# EAGLE library part MAX3395E? (library _hhn_max3395)
MAXIM MAX3395E Quad Level Translators Author: Dipl.-Ing. FH Rainer Bayer (rainer.bayer@hs-heilbronn.de) Package Variants ETC+ TQFN 12 with Exposed Pad Notes Connect Exposed Pad (PAD) with GND
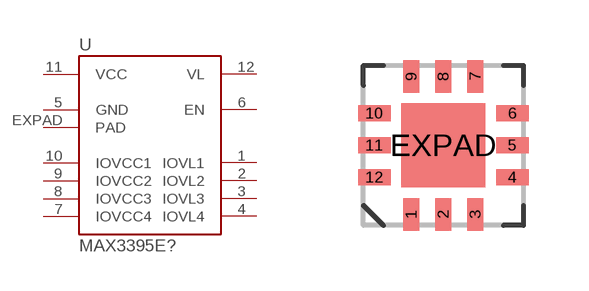
[diagram p0: symbol with the pads of TQFN12_EP; footprint TQFN12_EP]

Designator prefix U

## MAX3395EETC+  [TQFN12_EP]
1  IOVL1  hiz
2  IOVL2  hiz
3  IOVL3  hiz
4  IOVL4  hiz
5  GND  pwr
6  EN  in
7  IOVCC4  hiz
8  IOVCC3  hiz
9  IOVCC2  hiz
10  IOVCC1  hiz
11  VCC  pwr
12  VL  pwr
EXPAD  PAD  pwr

## Footprint TQFN12_EP (pad centres in mm)
TQFN 12 with Exposed Pad
smd 0.406 x 0.813: 1 -0.8,-1.725; 2 0,-1.725; 3 0.8,-1.725; 7 0.8,1.725; 8 0,1.725; 9 -0.8,1.725
smd 0.813 x 0.406: 4 1.725,-0.8; 5 1.725,0; 6 1.725,0.8; 10 -1.725,0.8; 11 -1.725,0; 12 -1.725,-0.8
smd 2.1 x 2.1: EXPAD 0,0